# EAGLE library part WS2812B_STRIP_2LED_10MM (library ws2812b_strip_2led_10mm_compact)
WS2812B strip segment, 2 LEDs, 10mm width.
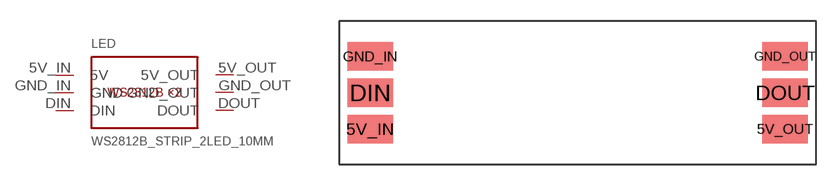
[diagram p0: symbol with the pads of WS2812B_STRIP_2LED_10MM_INOUT_PADS; footprint WS2812B_STRIP_2LED_10MM_INOUT_PADS]

Designator prefix LED

## WS2812B_STRIP_2LED_10MM  [WS2812B_STRIP_2LED_10MM_INOUT_PADS]
5V_IN  5V  pwr
5V_OUT  5V_OUT  pwr
DIN  DIN  in
DOUT  DOUT  out
GND_IN  GND  pwr
GND_OUT  GND_OUT  pwr

## Footprint WS2812B_STRIP_2LED_10MM_INOUT_PADS (pad centres in mm)
10mm wide strip segment footprint (2 LEDs @ 60 LED/m). IN pads on left, OUT pads on right.
smd 3.2 x 2: 5V_IN -14.5,-2.54; 5V_OUT 14.5,-2.54; DIN -14.5,0; DOUT 14.5,0; GND_IN -14.5,2.54; GND_OUT 14.5,2.54